# EAGLE library part PCF2129AT (library FaBo-Parts)
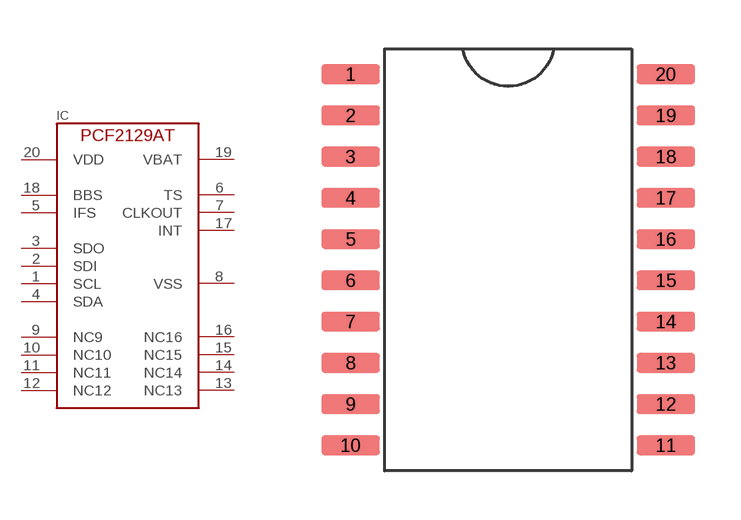
[diagram p9: symbol with the pads of PCF2129AT; footprint PCF2129AT]

Designator prefix IC

## PCF2129AT  [PCF2129AT]
1  SCL
2  SDI
3  SDO
4  SDA
5  IFS
6  TS
7  CLKOUT
8  VSS
9  NC9
10  NC10
11  NC11
12  NC12
13  NC13
14  NC14
15  NC15
16  NC16
17  INT
18  BBS
19  VBAT
20  VDD

## Footprint PCF2129AT (pad centres in mm)
smd 1.8 x 0.6: 1 -4.85,5.715; 2 -4.85,4.445; 3 -4.85,3.175; 4 -4.85,1.905; 5 -4.85,0.635; 6 -4.85,-0.635; 7 -4.85,-1.905; 8 -4.85,-3.175; 9 -4.85,-4.445; 10 -4.85,-5.715; 11 4.85,-5.715; 12 4.85,-4.445; 13 4.85,-3.175; 14 4.85,-1.905; 15 4.85,-0.635; 16 4.85,0.635; 17 4.85,1.905; 18 4.85,3.175; 19 4.85,4.445; 20 4.85,5.715